# Altium schematic symbol library BUTTON.SchLib: 1 symbol
Pins are listed as number, name and electrical type; pins without a type are passive.

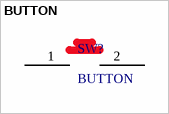
[diagram p0: symbol BUTTON]

## BUTTON
designator SW?
footprint BUTTON 6*6R
footprint BUTTON 3*6*2.5
footprint BUTTON 6*6 DIP
footprint SW12*12
footprint SW6*6SMD
pins: 1, 2